# EAGLE library part CC1000 (library TSSOP28)
single chip very low power RF Transceiver 315/433/868 and 915 MHz ISM/SRD
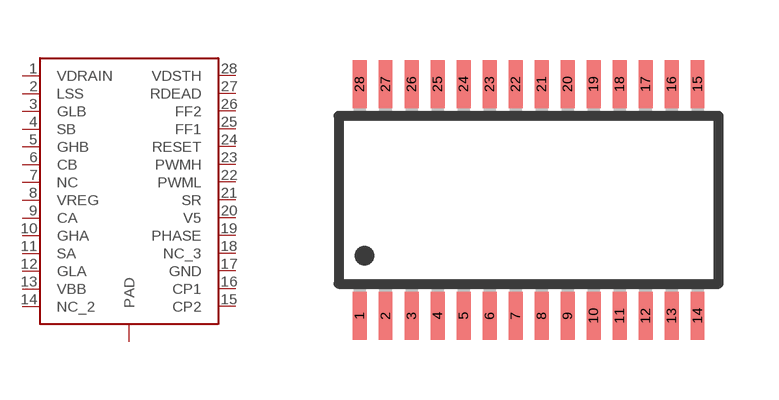
[diagram p0: symbol with the pads of TSSOP28; footprint TSSOP28]

Designator prefix -

## CC1000  [TSSOP28]
1  VDRAIN
2  LSS
3  GLB
4  SB
5  GHB
6  CB
7  NC
8  VREG
9  CA
10  GHA
11  SA
12  GLA
13  VBB
14  NC_2
15  CP2
16  CP1
17  GND
18  NC_3
19  PHASE
20  V5
21  SR
22  PWML
23  PWMH
24  RESET
25  FF1
26  FF2
27  RDEAD
28  VDSTH

## Footprint TSSOP28 (pad centres in mm)
28-Lead TSSOP Package RU-28
smd 0.35 x 1.2: 1 -4.225,-2.9; 2 -3.575,-2.9; 3 -2.925,-2.9; 4 -2.275,-2.9; 5 -1.625,-2.9; 6 -0.975,-2.9; 7 -0.325,-2.9; 8 0.325,-2.9; 9 0.975,-2.9; 10 1.625,-2.9; 11 2.275,-2.9; 12 2.925,-2.9; 13 3.575,-2.9; 14 4.225,-2.9; 15 4.225,2.9; 16 3.575,2.9; 17 2.925,2.9; 18 2.275,2.9; 19 1.625,2.9; 20 0.975,2.9; 21 0.325,2.9; 22 -0.325,2.9; 23 -0.975,2.9; 24 -1.625,2.9; 25 -2.275,2.9; 26 -2.925,2.9; 27 -3.575,2.9; 28 -4.225,2.9